# EAGLE library part CX102-PANELMETER (library C3-Modules)
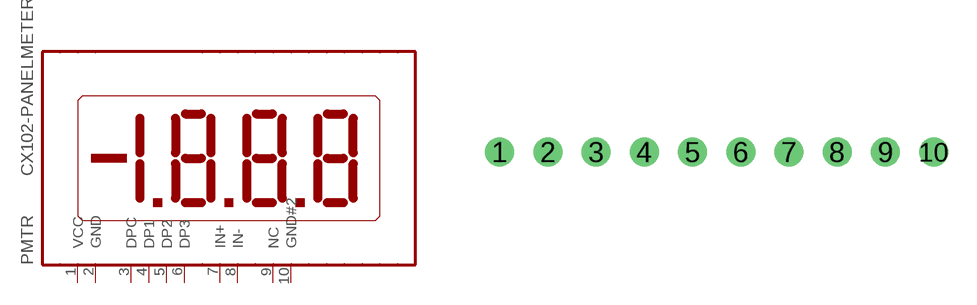
[diagram p8: symbol with the pads of CX102; footprint CX102]

Designator prefix PMTR

## CX102-PANELMETER  [CX102]
1  VCC
2  GND
3  DPC
4  DP1
5  DP2
6  DP3
7  IN+
8  IN-
9  NC
10  GND#2

## Footprint CX102 (pad centres in mm)
drill 1.016: 1 -11.43,0; 2 -8.89,0; 3 -6.35,0; 4 -3.81,0; 5 -1.27,0; 6 1.27,0; 7 3.81,0; 8 6.35,0; 9 8.89,0; 10 11.43,0